# EAGLE library part DSPIC33FJ256GP710 (library SparkFun)
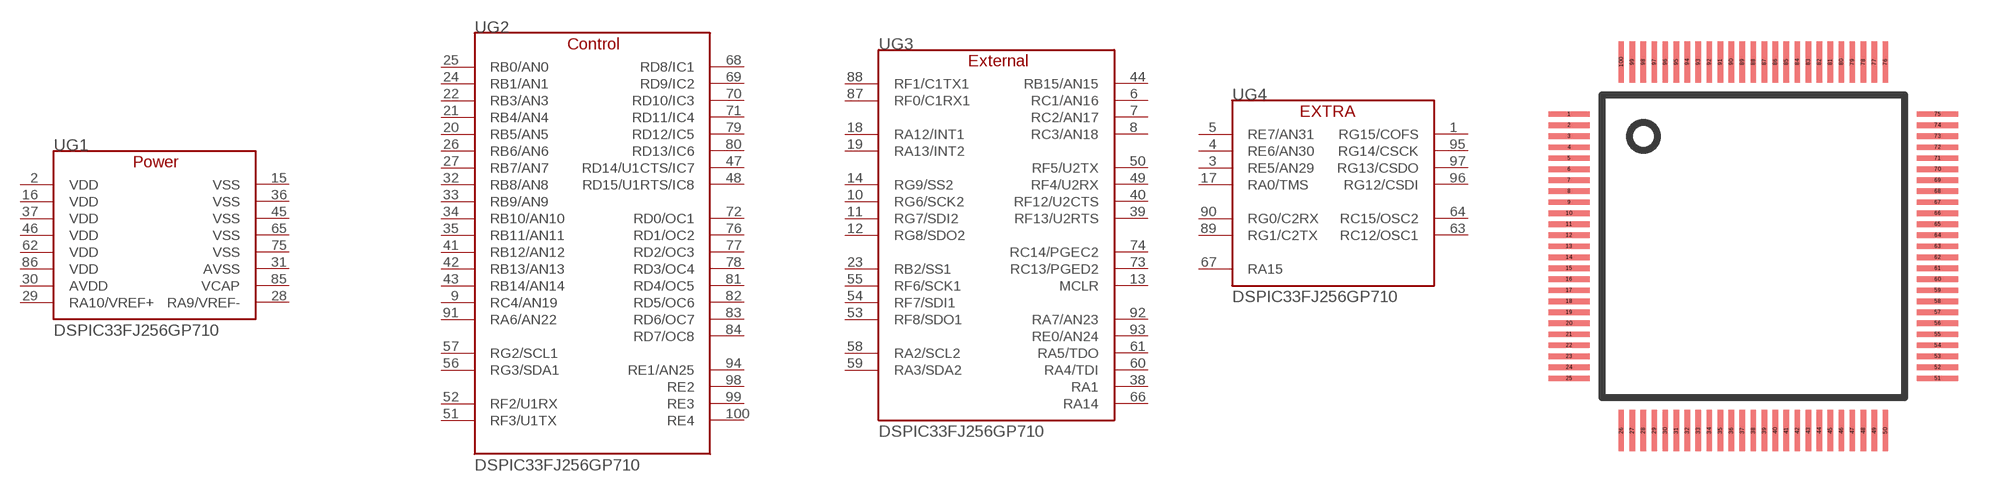
[diagram p295: symbol with the pads of TQFP-100-12X12MM; footprint TQFP-100-12X12MM]

Designator prefix U; gates G1=DSPIC33FJ256GP710_POWER G2=DSPIC33FJ256GP710_CONTROL G3=DSPIC33FJ256GP710_EXTERNAL G4=DSPIC33FJ256GP710_EXTRA

## DSPIC33FJ256GP710_  [TQFP-100-12X12MM]
1  G4:RG15/COFS
2  G1:VDD
3  G4:RE5/AN29
4  G4:RE6/AN30
5  G4:RE7/AN31
6  G3:RC1/AN16
7  G3:RC2/AN17
8  G3:RC3/AN18
9  G2:RC4/AN19
10  G3:RG6/SCK2
11  G3:RG7/SDI2
12  G3:RG8/SDO2
13  G3:MCLR
14  G3:RG9/SS2
15  G1:VSS
16  G1:VDD
17  G4:RA0/TMS
18  G3:RA12/INT1
19  G3:RA13/INT2
20  G2:RB5/AN5
21  G2:RB4/AN4
22  G2:RB3/AN3
23  G3:RB2/SS1
24  G2:RB1/AN1
25  G2:RB0/AN0
26  G2:RB6/AN6
27  G2:RB7/AN7
28  G1:RA9/VREF-
29  G1:RA10/VREF+
30  G1:AVDD
31  G1:AVSS
32  G2:RB8/AN8
33  G2:RB9/AN9
34  G2:RB10/AN10
35  G2:RB11/AN11
36  G1:VSS
37  G1:VDD
38  G3:RA1
39  G3:RF13/U2RTS
40  G3:RF12/U2CTS
41  G2:RB12/AN12
42  G2:RB13/AN13
43  G2:RB14/AN14
44  G3:RB15/AN15
45  G1:VSS
46  G1:VDD
47  G2:RD14/U1CTS/IC7
48  G2:RD15/U1RTS/IC8
49  G3:RF4/U2RX
50  G3:RF5/U2TX
51  G2:RF3/U1TX
52  G2:RF2/U1RX
53  G3:RF8/SDO1
54  G3:RF7/SDI1
55  G3:RF6/SCK1
56  G2:RG3/SDA1
57  G2:RG2/SCL1
58  G3:RA2/SCL2
59  G3:RA3/SDA2
60  G3:RA4/TDI
61  G3:RA5/TDO
62  G1:VDD
63  G4:RC12/OSC1
64  G4:RC15/OSC2
65  G1:VSS
66  G3:RA14
67  G4:RA15
68  G2:RD8/IC1
69  G2:RD9/IC2
70  G2:RD10/IC3
71  G2:RD11/IC4
72  G2:RD0/OC1
73  G3:RC13/PGED2
74  G3:RC14/PGEC2
75  G1:VSS
76  G2:RD1/OC2
77  G2:RD2/OC3
78  G2:RD3/OC4
79  G2:RD12/IC5
80  G2:RD13/IC6
81  G2:RD4/OC5
82  G2:RD5/OC6
83  G2:RD6/OC7
84  G2:RD7/OC8
85  G1:VCAP
86  G1:VDD
87  G3:RF0/C1RX1
88  G3:RF1/C1TX1
89  G4:RG1/C2TX
90  G4:RG0/C2RX
91  G2:RA6/AN22
92  G3:RA7/AN23
93  G3:RE0/AN24
94  G2:RE1/AN25
95  G4:RG14/CSCK
96  G4:RG12/CSDI
97  G4:RG13/CSDO
98  G2:RE2
99  G2:RE3
100  G2:RE4

## Footprint TQFP-100-12X12MM (pad centres in mm)
smd 1.5 x 0.2: 1 -6.7,4.8; 2 -6.7,4.4; 3 -6.7,4; 4 -6.7,3.6; 5 -6.7,3.2; 6 -6.7,2.8; 7 -6.7,2.4; 8 -6.7,2; 9 -6.7,1.6; 10 -6.7,1.2; 11 -6.7,0.8; 12 -6.7,0.4; 13 -6.7,0; 14 -6.7,-0.4; 15 -6.7,-0.8; 16 -6.7,-1.2; 17 -6.7,-1.6; 18 -6.7,-2; 19 -6.7,-2.4; 20 -6.7,-2.8; 21 -6.7,-3.2; 22 -6.7,-3.6; 23 -6.7,-4; 24 -6.7,-4.4; 25 -6.7,-4.8; 51 6.7,-4.8; 52 6.7,-4.4; 53 6.7,-4; 54 6.7,-3.6; 55 6.7,-3.2; 56 6.7,-2.8; 57 6.7,-2.4; 58 6.7,-2; 59 6.7,-1.6; 60 6.7,-1.2; 61 6.7,-0.8; 62 6.7,-0.4; 63 6.7,0; 64 6.7,0.4; 65 6.7,0.8; 66 6.7,1.2; 67 6.7,1.6; 68 6.7,2; 69 6.7,2.4; 70 6.7,2.8; 71 6.7,3.2; 72 6.7,3.6; 73 6.7,4; 74 6.7,4.4; 75 6.7,4.8
smd 0.2 x 1.5: 26 -4.8,-6.7; 27 -4.4,-6.7; 28 -4,-6.7; 29 -3.6,-6.7; 30 -3.2,-6.7; 31 -2.8,-6.7; 32 -2.4,-6.7; 33 -2,-6.7; 34 -1.6,-6.7; 35 -1.2,-6.7; 36 -0.8,-6.7; 37 -0.4,-6.7; 38 0,-6.7; 39 0.4,-6.7; 40 0.8,-6.7; 41 1.2,-6.7; 42 1.6,-6.7; 43 2,-6.7; 44 2.4,-6.7; 45 2.8,-6.7; 46 3.2,-6.7; 47 3.6,-6.7; 48 4,-6.7; 49 4.4,-6.7; 50 4.8,-6.7; 76 4.8,6.7; 77 4.4,6.7; 78 4,6.7; 79 3.6,6.7; 80 3.2,6.7; 81 2.8,6.7; 82 2.4,6.7; 83 2,6.7; 84 1.6,6.7; 85 1.2,6.7; 86 0.8,6.7; 87 0.4,6.7; 88 0,6.7; 89 -0.4,6.7; 90 -0.8,6.7; 91 -1.2,6.7; 92 -1.6,6.7; 93 -2,6.7; 94 -2.4,6.7; 95 -2.8,6.7; 96 -3.2,6.7; 97 -3.6,6.7; 98 -4,6.7; 99 -4.4,6.7; 100 -4.8,6.7